# EAGLE library part XC2C64A-7QFG48C (library CPLD)
IC CPLD 64MC 6.7NS 48QFN Manufacturer's datasheet <https://www.xilinx.com/support/documentation/package_specs/qfg48.pdf>
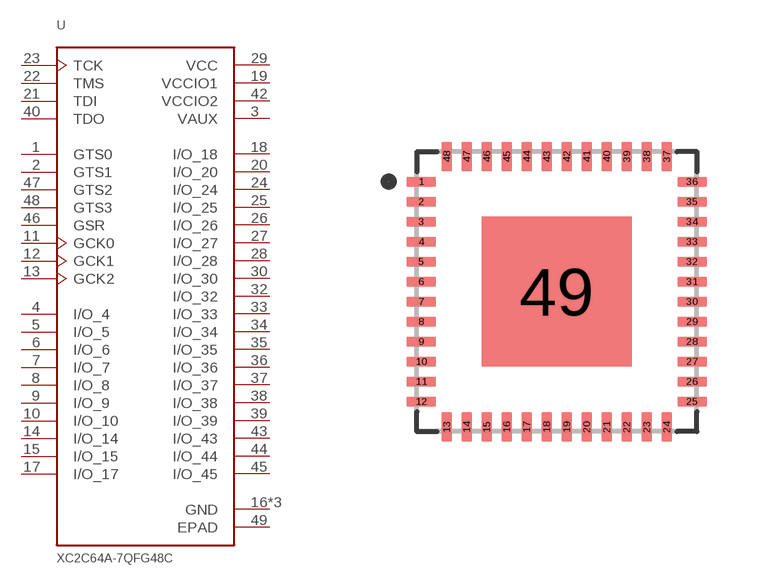
[diagram p5: symbol with the pads of QFN-48; footprint QFN-48]

Designator prefix U

## XC2C64A-7QFG48C (CREATED_BY: PCBLayout.com; DIGIKEY_PN: 122-1418-ND; MANUFACTURER: Xilinx Inc.; MPN: XC2C64A-7QFG48C; PACKAGE: QFN-48)  [QFN-48]
1  GTS0
2  GTS1
3  VAUX  pwr
4  I/O_4
5  I/O_5
6  I/O_6
7  I/O_7
8  I/O_8
9  I/O_9
10  I/O_10
11  GCK0
12  GCK1
13  GCK2
14  I/O_14
15  I/O_15
16  GND  pwr
17  I/O_17
18  I/O_18
19  VCCIO1  pwr
20  I/O_20
21  TDI  in
22  TMS  in
23  TCK  in
24  I/O_24
25  I/O_25
26  I/O_26
27  I/O_27
28  I/O_28
29  VCC  pwr
30  I/O_30
31  GND  pwr
32  I/O_32
33  I/O_33
34  I/O_34
35  I/O_35
36  I/O_36
37  I/O_37
38  I/O_38
39  I/O_39
40  TDO  out
41  GND  pwr
42  VCCIO2  pwr
43  I/O_43
44  I/O_44
45  I/O_45
46  GSR
47  GTS2
48  GTS3
49  EPAD  pwr

## Footprint QFN-48 (pad centres in mm)
smd 0.74 x 0.26: 1 -3.385,2.75; 2 -3.385,2.25; 3 -3.385,1.75; 4 -3.385,1.25; 5 -3.385,0.75; 6 -3.385,0.25; 7 -3.385,-0.25; 8 -3.385,-0.75; 9 -3.385,-1.25; 10 -3.385,-1.75; 11 -3.385,-2.25; 12 -3.385,-2.75; 25 3.385,-2.75; 26 3.385,-2.25; 27 3.385,-1.75; 28 3.385,-1.25; 29 3.385,-0.75; 30 3.385,-0.25; 31 3.385,0.25; 32 3.385,0.75; 33 3.385,1.25; 34 3.385,1.75; 35 3.385,2.25; 36 3.385,2.75
smd 0.26 x 0.74: 13 -2.75,-3.385; 14 -2.25,-3.385; 15 -1.75,-3.385; 16 -1.25,-3.385; 17 -0.75,-3.385; 18 -0.25,-3.385; 19 0.25,-3.385; 20 0.75,-3.385; 21 1.25,-3.385; 22 1.75,-3.385; 23 2.25,-3.385; 24 2.75,-3.385; 37 2.75,3.385; 38 2.25,3.385; 39 1.75,3.385; 40 1.25,3.385; 41 0.75,3.385; 42 0.25,3.385; 43 -0.25,3.385; 44 -0.75,3.385; 45 -1.25,3.385; 46 -1.75,3.385; 47 -2.25,3.385; 48 -2.75,3.385
smd 3.75 x 3.75: 49 0,0